# Altium footprint library alexsb.PCBLIB: 444 footprints (part 25 of 28)
Each footprint in its own frame and in the unit in brackets; x right, y up, seen from the top. Pads: shape width x height; smd on the part's side, far side on the other; paste and mask are expansions set on the pad; w line width, h text height; cw(c..) or ccw(c..) is an arc to the next point about the centre after c.
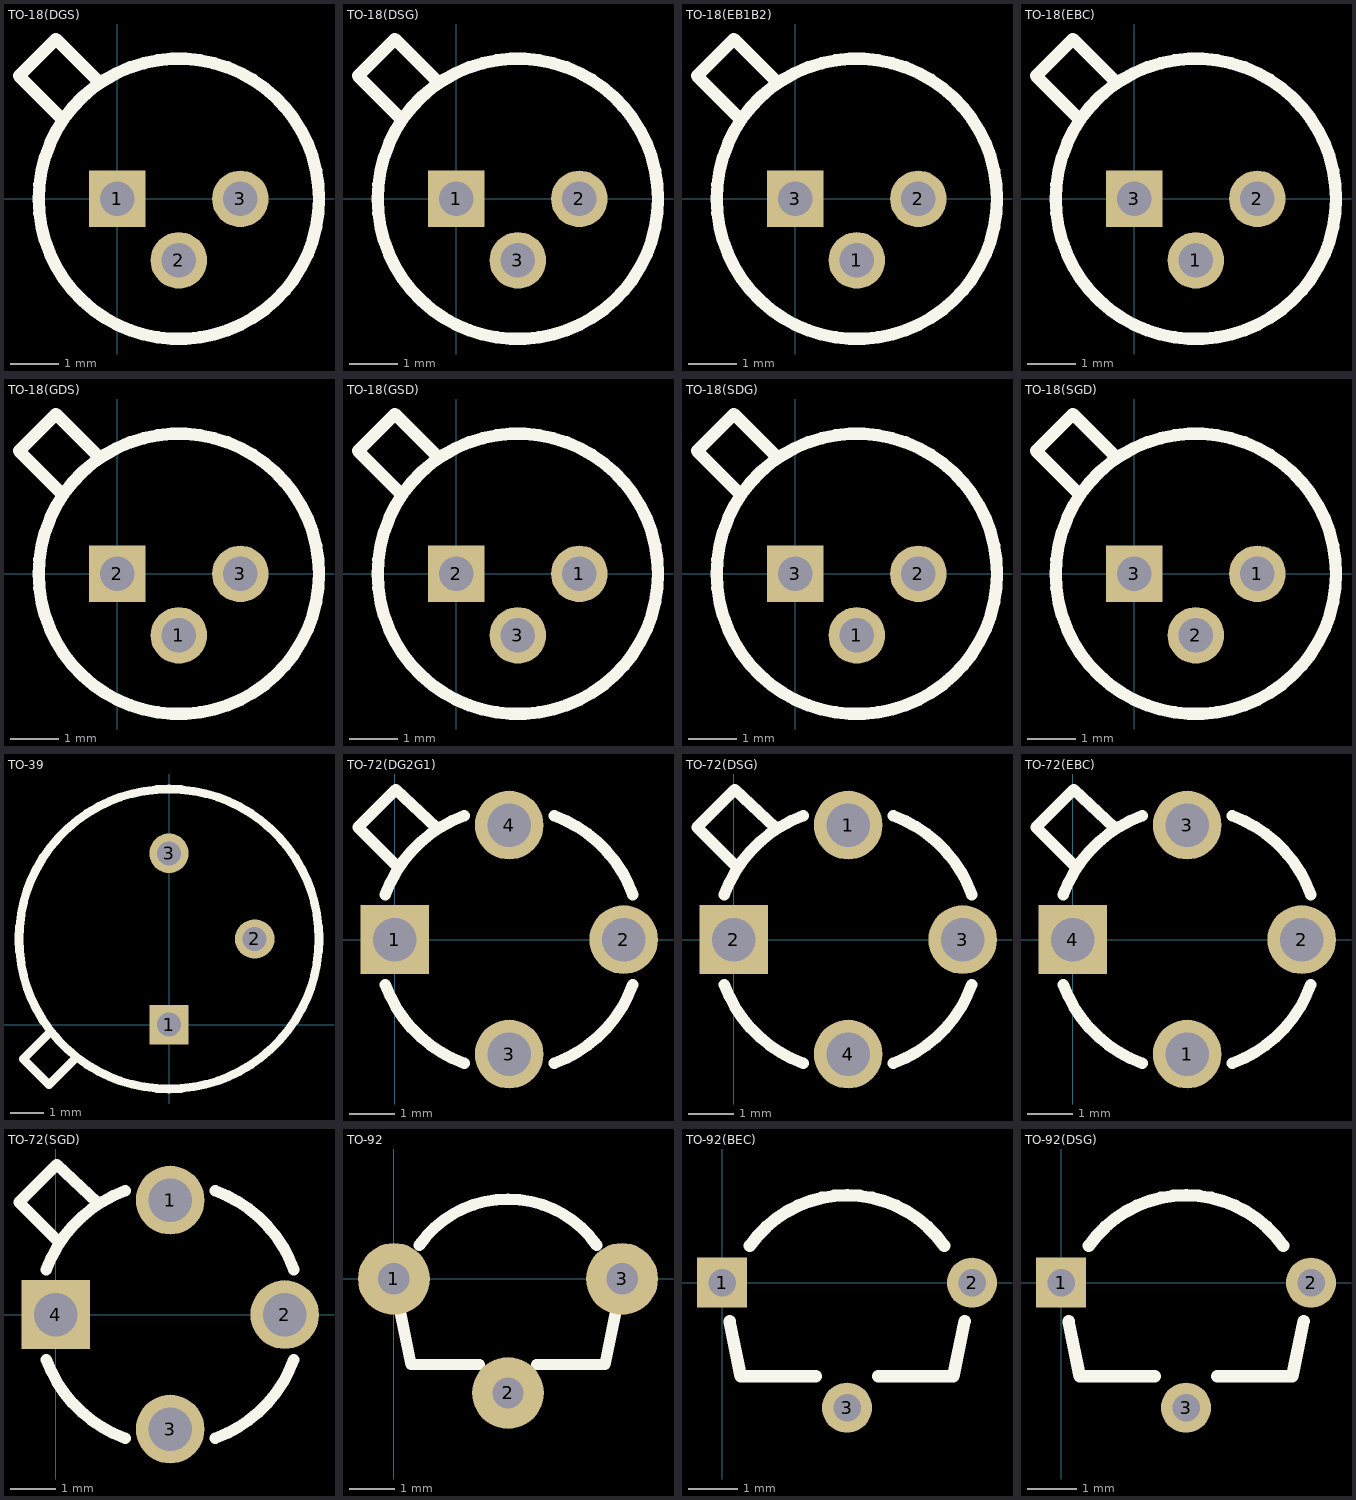
[diagram p24: the footprints below, top view; thin cyan lines are the x and y axes]

## TO-18(DGS) [mil]
pads (3):
  rect 46x46 hole 28: 1(0,0)
  round 46 hole 28: 2(50,-50) 3(100,0)
Top Overlay:
  circle w10: c50,0 r114
  lines w10: -45,65 -80,100 -50,130 -15,95

## TO-18(DSG) [mil]
pads (3):
  rect 46x46 hole 28: 1(0,0)
  round 46 hole 28: 2(100,0) 3(50,-50)
Top Overlay:
  circle w10: c50,0 r114
  lines w10: -45,65 -80,100 -50,130 -15,95

## TO-18(EB1B2) [mil]
pads (3):
  round 46 hole 28: 1(50,-50) 2(100,0)
  rect 46x46 hole 28: 3(0,0)
Top Overlay:
  circle w10: c50,0 r114
  lines w10: -45,65 -80,100 -50,130 -15,95

## TO-18(EBC) [mil]
pads (3):
  round 46 hole 28: 1(50,-50) 2(100,0)
  rect 46x46 hole 28: 3(0,0)
Top Overlay:
  circle w10: c50,0 r114
  lines w10: -45,65 -80,100 -50,130 -15,95

## TO-18(GDS) [mil]
pads (3):
  round 46 hole 28: 1(50,-50) 3(100,0)
  rect 46x46 hole 28: 2(0,0)
Top Overlay:
  circle w10: c50,0 r114
  lines w10: -45,65 -80,100 -50,130 -15,95

## TO-18(GSD) [mil]
pads (3):
  round 46 hole 28: 1(100,0) 3(50,-50)
  rect 46x46 hole 28: 2(0,0)
Top Overlay:
  circle w10: c50,0 r114
  lines w10: -45,65 -80,100 -50,130 -15,95

## TO-18(SDG) [mil]
pads (3):
  round 46 hole 28: 1(50,-50) 2(100,0)
  rect 46x46 hole 28: 3(0,0)
Top Overlay:
  circle w10: c50,0 r114
  lines w10: -45,65 -80,100 -50,130 -15,95

## TO-18(SGD) [mil]
pads (3):
  round 46 hole 28: 1(100,0) 2(50,-50)
  rect 46x46 hole 28: 3(0,0)
Top Overlay:
  circle w10: c50,0 r114
  lines w10: -45,65 -80,100 -50,130 -15,95

## TO-39 [mil]
pads (3):
  rect 46x46 hole 28: 1(0,0)
  round 46 hole 28: 2(100,100) 3(0,200)
Top Overlay:
  circle w10: c0,100 r175
  lines w10: -140,-10 -170,-40 -140,-70 -110,-40

## TO-72(DG2G1) [mil]
pads (4):
  rect 60x60 hole 38: 1(0,0)
  round 60 hole 38: 2(200,0) 3(100,-100) 4(100,100)
Top Overlay:
  lines w10: -8.06,-39.33 ccw(c100,0) 60.67,-108.06 ; -8.06,39.33 cw(c100,0) 60.67,108.06 ; 2,64 -32,98 1,131 36,98 ; 139.33,-108.06 ccw(c100,0) 208.06,-39.33 ; 139.33,108.06 cw(c100,0) 208.06,39.33

## TO-72(DSG) [mil]
pads (4):
  round 60 hole 38: 1(100,100) 3(200,0) 4(100,-100)
  rect 60x60 hole 38: 2(0,0)
Top Overlay:
  lines w10: -8.06,-39.33 ccw(c100,0) 60.67,-108.06 ; -8.06,39.33 cw(c100,0) 60.67,108.06 ; 2,64 -32,98 1,131 36,98 ; 139.33,-108.06 ccw(c100,0) 208.06,-39.33 ; 139.33,108.06 cw(c100,0) 208.06,39.33

## TO-72(EBC) [mil]
pads (4):
  round 60 hole 38: 1(100,-100) 2(200,0) 3(100,100)
  rect 60x60 hole 38: 4(0,0)
Top Overlay:
  lines w10: -8.06,-39.33 ccw(c100,0) 60.67,-108.06 ; -8.06,39.33 cw(c100,0) 60.67,108.06 ; 2,64 -32,98 1,131 36,98 ; 139.33,-108.06 ccw(c100,0) 208.06,-39.33 ; 139.33,108.06 cw(c100,0) 208.06,39.33

## TO-72(SGD) [mil]
pads (4):
  round 60 hole 38: 1(100,100) 2(200,0) 3(100,-100)
  rect 60x60 hole 38: 4(0,0)
Top Overlay:
  lines w10: -8.06,-39.33 ccw(c100,0) 60.67,-108.06 ; -8.06,39.33 cw(c100,0) 60.67,108.06 ; 2,64 -32,98 1,131 36,98 ; 139.33,-108.06 ccw(c100,0) 208.06,-39.33 ; 139.33,108.06 cw(c100,0) 208.06,39.33

## TO-92 [mm]
pads (3):
  round 1.6 hole 0.7: 1(0,0) 2(2.54,-2.54) 3(5.08,0)
Top Overlay:
  lines w0.254: 0.152,-0.787 0.381,-1.905 1.905,-1.905 ; 0.563,0.749 cw(c2.54,-0.635) 4.517,0.749 ; 3.175,-1.905 4.699,-1.905 4.928,-0.787

## TO-92(BEC) [mil]
pads (3):
  rect 40x40 hole 22: 1(0,0)
  round 40 hole 22: 2(200,0) 3(100,-100)
Top Overlay:
  lines w10: 6,-31 15,-75 75,-75 ; 22.18,29.49 cw(c100,-25) 177.82,29.49 ; 125,-75 185,-75 194,-31

## TO-92(DSG) [mil]
pads (3):
  rect 40x40 hole 22: 1(0,0)
  round 40 hole 22: 2(200,0) 3(100,-100)
Top Overlay:
  lines w10: 6,-31 15,-75 75,-75 ; 22.18,29.49 cw(c100,-25) 177.82,29.49 ; 125,-75 185,-75 194,-31